# Altium schematic symbol library Inductor.SchLib: 34 symbols
Pins are listed as number, name and electrical type; pins without a type are passive.

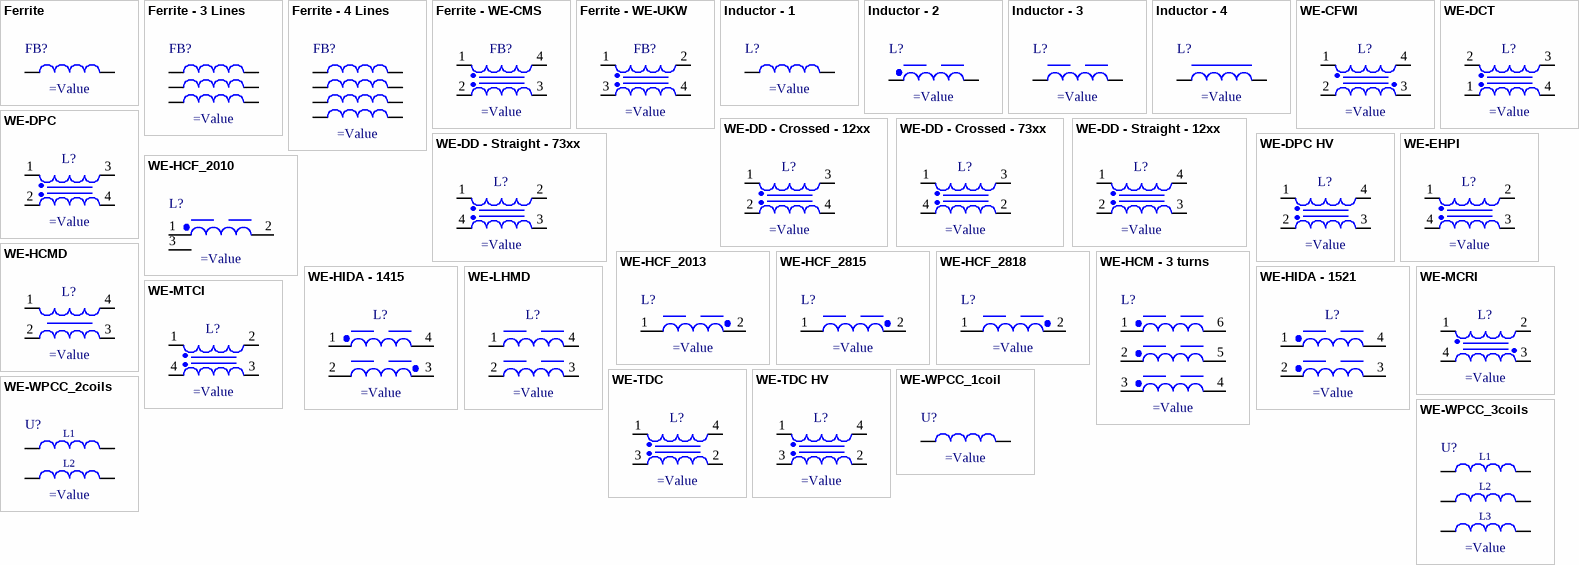
[diagram p0: symbols Ferrite to WE-WPCC_3coils]

## Ferrite
designator FB?
pins: 1, 2

## Ferrite - 3 Lines
designator FB?
pins: 1, 2, 3, 4, 5, 6

## Ferrite - 4 Lines
designator FB?
pins: 1, 2, 3, 4, 5, 6, 7, 8

## Ferrite - WE-CMS
designator FB?
pins: 1, 2, 3, 4

## Ferrite - WE-UKW
designator FB?
pins: 1, 2, 3, 4

## Inductor - 1
designator L?
pins: 1, 2

## Inductor - 2
designator L?
pins: 1, 2

## Inductor - 3
designator L?
pins: 1, 2

## Inductor - 4
designator L?
pins: 1, 2

## WE-CFWI
designator L?
pins: 1, 2, 3, 4

## WE-DCT
designator L?
pins: 1, 2, 3, 4

## WE-DD - Crossed - 12xx
designator L?
pins: 1, 2, 3, 4

## WE-DD - Crossed - 73xx
designator L?
pins: 1, 2, 3, 4

## WE-DD - Straight - 12xx
designator L?
pins: 1, 2, 3, 4

## WE-DD - Straight - 73xx
designator L?
pins: 1, 2, 3, 4

## WE-DPC
designator L?
pins: 1, 2, 3, 4

## WE-DPC HV
designator L?
pins: 1, 2, 3, 4

## WE-EHPI
designator L?
pins: 1, 2, 3, 4

## WE-HCF_2010
designator L?
pins: 1, 2, 3

## WE-HCF_2013
designator L?
pins: 1, 2

## WE-HCF_2815
designator L?
pins: 1, 2

## WE-HCF_2818
designator L?
pins: 1, 2

## WE-HCM - 3 turns
designator L?
pins: 1, 2, 3, 4, 5, 6

## WE-HCMD
designator L?
pins: 1, 2, 3, 4

## WE-HIDA - 1415
designator L?
pins: 1, 2, 3, 4

## WE-HIDA - 1521
designator L?
pins: 1, 2, 3, 4

## WE-LHMD
designator L?
pins: 1, 2, 3, 4

## WE-MCRI
designator L?
pins: 1, 2, 3, 4

## WE-MTCI
designator L?
pins: 1, 2, 3, 4

## WE-TDC
designator L?
pins: 1, 2, 3, 4

## WE-TDC HV
designator L?
pins: 1, 2, 3, 4

## WE-WPCC_1coil
designator U?
pins: 1, 2

## WE-WPCC_2coils
designator U?
pins: 1, 2, 3, 4
text: L1; L2

## WE-WPCC_3coils
designator U?
pins: 1, 2, 3, 4, 5, 6
text: L1; L2; L3